# Altium footprint library Resistor.PcbLib: 1 footprints
Each footprint in its own frame and in the unit in brackets; x right, y up, seen from the top. Pads: shape width x height; smd on the part's side, far side on the other; paste and mask are expansions set on the pad; w line width, h text height; cw(c..) or ccw(c..) is an arc to the next point about the centre after c.
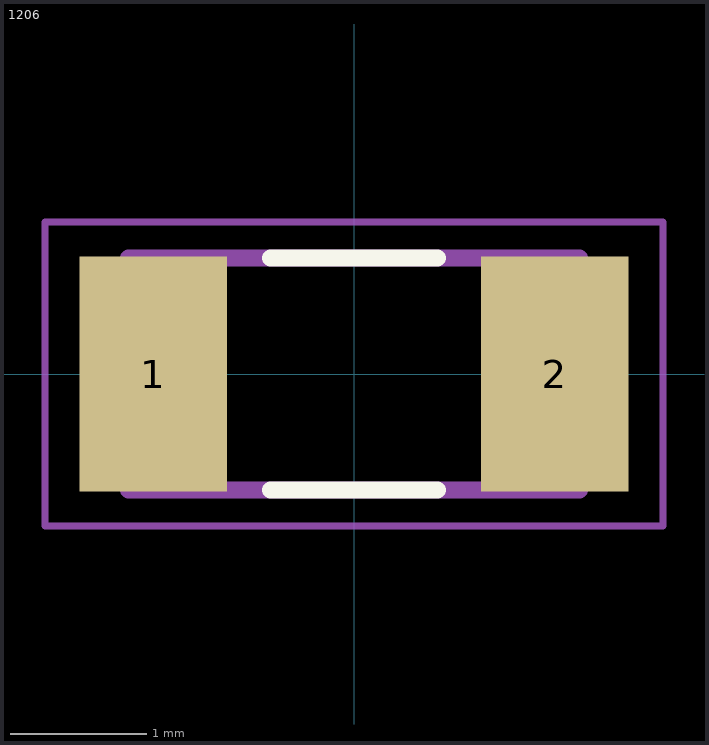
[diagram p0: the footprint, top view; thin cyan lines are the x and y axes]

## 1206 [mm]
pads (2):
  rect 1.08x1.72 smd: 1(-1.47,0) 2(1.47,0)
Top Overlay:
  lines w0.127: -0.61,-0.85 0.61,-0.85 ; -0.61,0.85 0.61,0.85
Mechanical 13:
  lines w0.127: -1.65,-0.85 1.65,-0.85 1.65,0.85 -1.65,0.85 -1.65,-0.85
Mechanical 15:
  lines w0.05: -2.262,-1.112 2.262,-1.112 2.262,1.112 -2.262,1.112 -2.262,-1.112
3D body "Resistor 10 Ohm SMT.STEP": height 0.71, standoff 0.01, extent -1.6,-0.8 1.6,0.8